# Altium footprint library XH1.0MM_直插.PcbLib: 1 footprints
Each footprint in its own frame and in the unit in brackets; x right, y up, seen from the top. Pads: shape width x height; smd on the part's side, far side on the other; paste and mask are expansions set on the pad; w line width, h text height; cw(c..) or ccw(c..) is an arc to the next point about the centre after c.
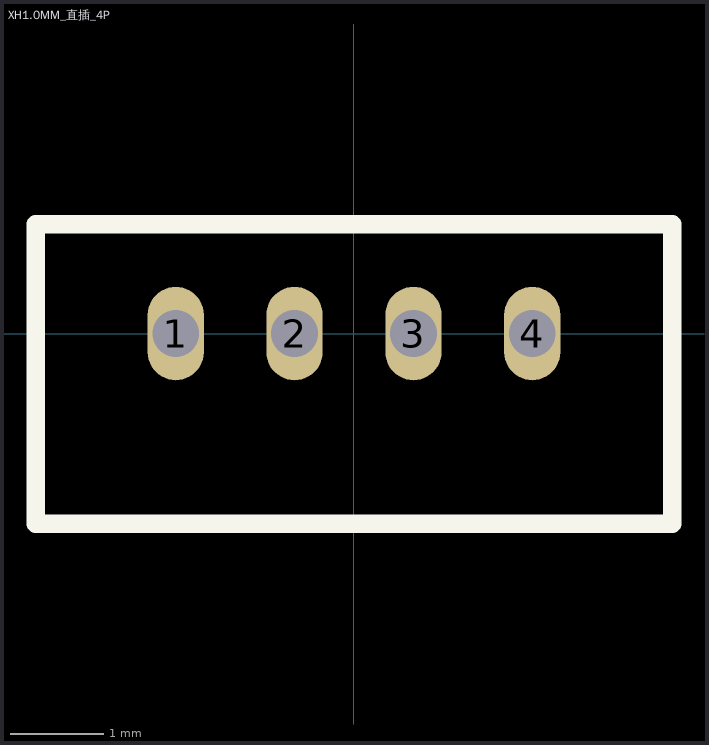
[diagram p0: the footprint, top view; thin cyan lines are the x and y axes]

## XH1.0MM_直插_4P [mm]
pads (4):
  oval 0.6x1 hole 0.5: 1(-1.905,0) 2(-0.635,0) 3(0.635,0) 4(1.905,0)
Top Overlay:
  lines w0.2: -3.4,-2.032 -3.4,1.168 3.4,1.168 3.4,-2.032 -3.4,-2.032